# Altium integrated library TI Data Converters Digital to Analog Converter.IntLib: 1533 symbols (part 12 of 99)
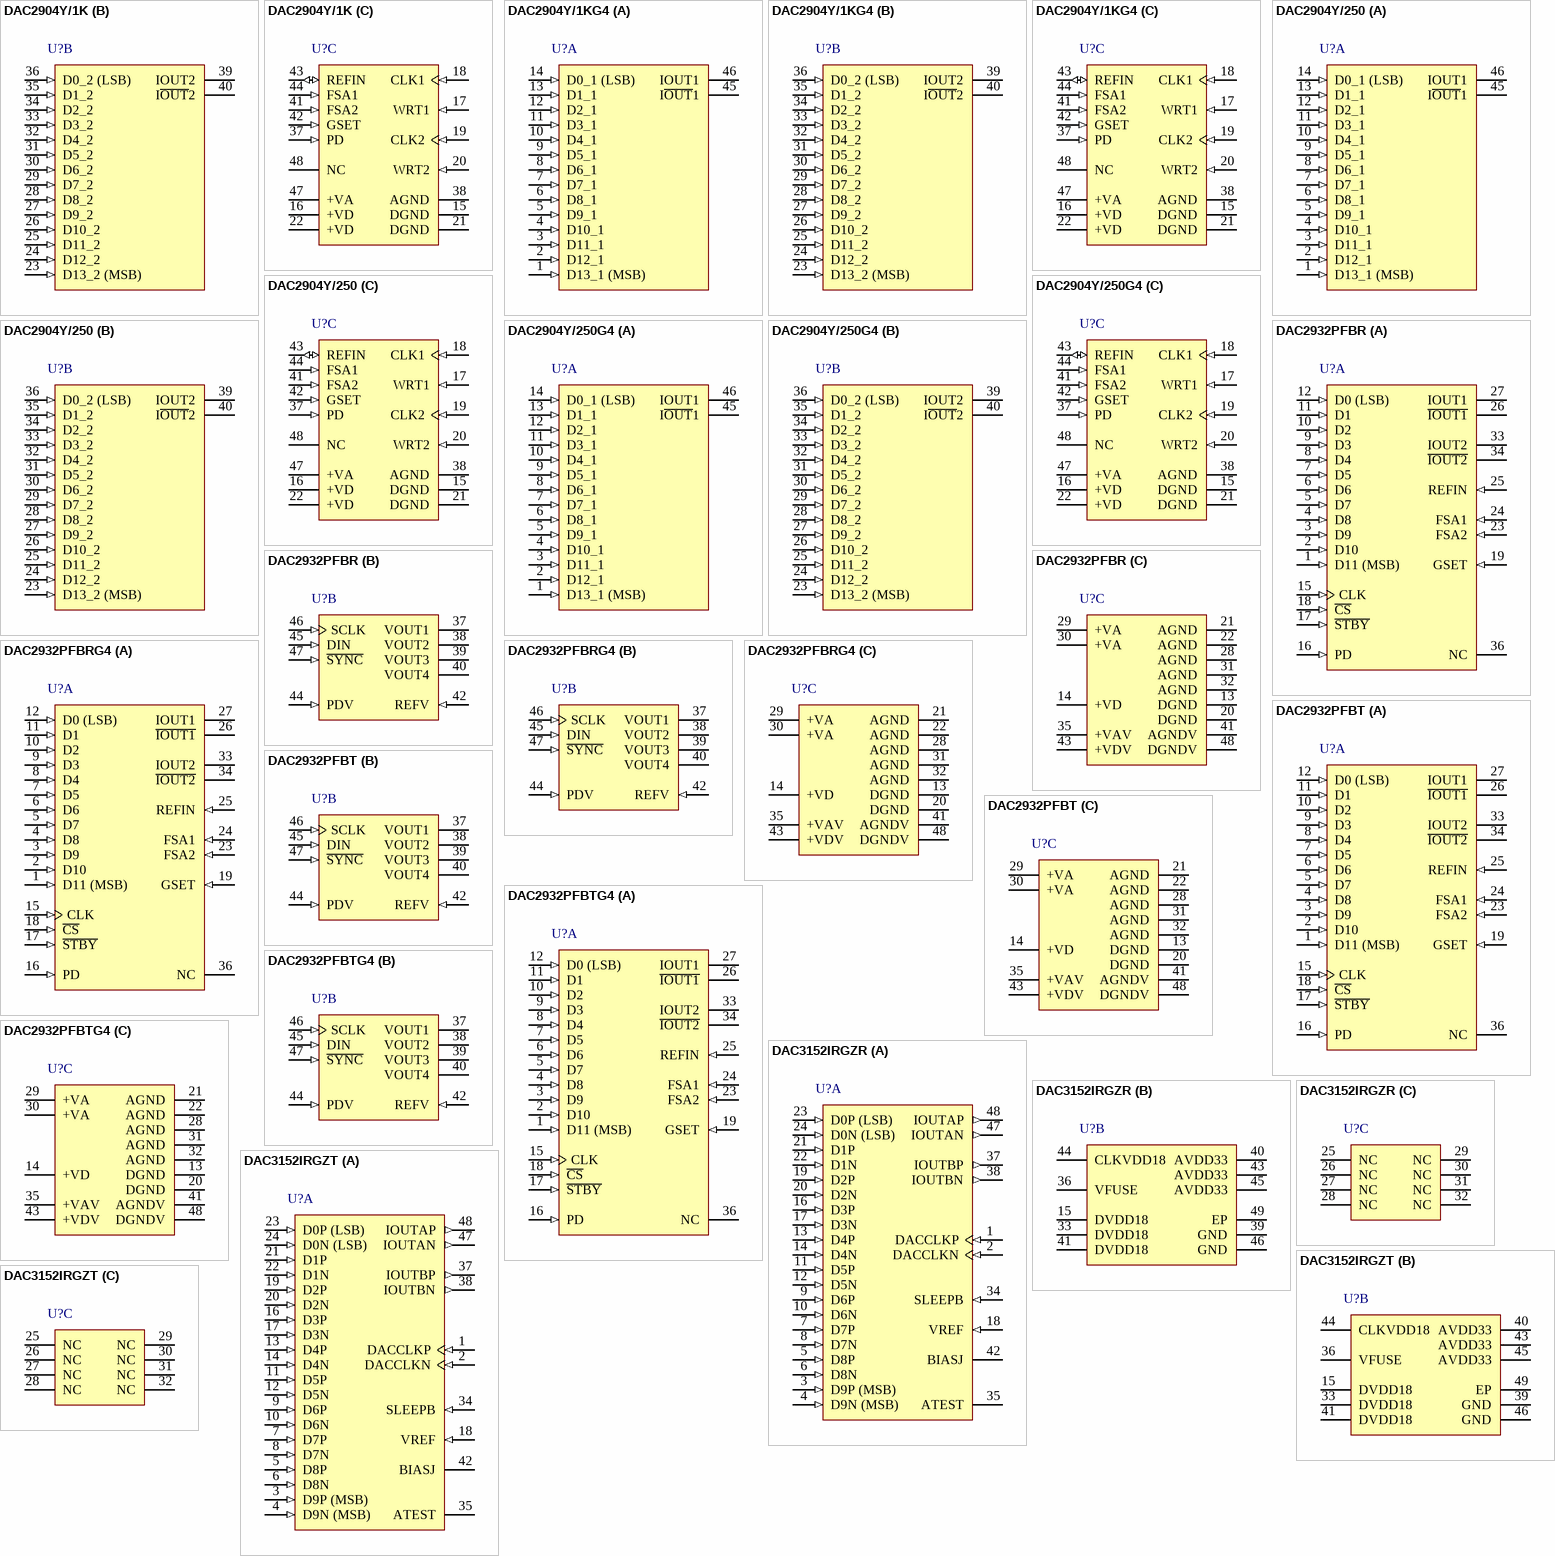
[diagram p84: symbols DAC2904Y/1K to DAC3152IRGZT]

## DAC2904Y/250G4
designator U?
14-Bit, 125 MSPS Dual Communications DAC, -40 to 85 degC, 48-pin QFP (PFB48), Green (RoHS & no Sb/Br); Manufacturer: Texas Instruments; PartNumber: DAC2904Y/250G4; DAC Channels: 2; Interface: Parallel CMOS; Power Consumption(Typ)(mW): 310; Resolution(Bits): 14; Settling Time(us): 0.03; SFDR(dB): 82; SNR(dB): 68; SubFamily: High Speed DAC (>10MSPS); DatasheetVersion: SBAS198C; PackageVersion: 4073176/B, 10/1996; PackageReference: PFB48; PackageDescription: 48-Pin Plastic Flat Pack, Body 7 x 7 mm, Pitch 0.5 mm; Supplier 1: Digi-Key; Supplier Part Number 1: DAC2904Y/250G4-ND; Supplier 2: Mouser; Supplier Part Number 2: 595-DAC2904Y/250G4; Eco-Plan: Green (RoHS & no Sb/Br); Mounting Technology: Surface Mount; Code_JEDEC: MS-026; ComponentLink1Description: Manufacturer URL; ComponentLink1URL: http://www.ti.com/; ComponentLink2Description: Datasheet; ComponentLink2URL: http://www.ti.com/general/docs/lit/getliterature.tsp?genericPartNumber=DAC2904&fileType=pdf; ComponentLink3Description: Package Specification; ComponentLink3URL: http://www.ti.com/lit/ml/mtqf019a/mtqf019a.pdf
footprint TI-PFB48_N (QFP, 48-Leads, Body 7x7mm, Pitch 0.5mm, IPC Medium Density)
footprint TI-PFB48_L (QFP, 48-Leads, Body 7x7mm, Pitch 0.5mm, IPC High Density)
footprint TI-PFB48_M (QFP, 48-Leads, Body 7x7mm, Pitch 0.5mm, IPC Low Density)
part A pins: 1 D13_1 (MSB) (in) "Data Port DAC1, data bit 13 (MSB).", 2 D12_1 (in) "Data Port DAC1, data bit 12.", 3 D11_1 (in) "Data Port DAC1, data bit 11.", 4 D10_1 (in) "Data Port DAC1, data bit 10.", 5 D9_1 (in) "Data Port DAC1, data bit 9.", 6 D8_1 (in) "Data Port DAC1, data bit 8.", 7 D7_1 (in) "Data Port DAC1, data bit 7.", 8 D6_1 (in) "Data Port DAC1, data bit6.", 9 D5_1 (in) "Data Port DAC1, data bit 5.", 10 D4_1 (in) "Data Port DAC1, data bit 4.", 11 D3_1 (in) "Data Port DAC1, data bit 3.", 12 D2_1 (in) "Data Port DAC1, data bit 2.", 13 D1_1 (in) "Data Port DAC1, data bit 1.", 14 D0_1 (LSB) (in) "Data Port DAC1, data bit 0 (LSB).", 45 I~{OUT}1 (hiz) "Complementary current output DAC1. Full-scale with all bits of data port 1 low.", 46 IOUT1 (hiz) "Current output DAC1. Full-scale with all bits of data port 1 high."
part B pins: 23 D13_2 (MSB) (in) "Data Port DAC2, data bit 13 (MSB).", 24 D12_2 (in) "Data Port DAC2, data bit 12.", 25 D11_2 (in) "Data Port DAC2, data bit 11.", 26 D10_2 (in) "Data Port DAC2, data bit 10.", 27 D9_2 (in) "Data Port DAC2, data bit 9.", 28 D8_2 (in) "Data Port DAC2, data bit 8.", 29 D7_2 (in) "Data Port DAC2, data bit 7.", 30 D6_2 (in) "Data Port DAC2, data bit6.", 31 D5_2 (in) "Data Port DAC2, data bit 5.", 32 D4_2 (in) "Data Port DAC2, data bit 4.", 33 D3_2 (in) "Data Port DAC2, data bit 3.", 34 D2_2 (in) "Data Port DAC2, data bit 2.", 35 D1_2 (in) "Data Port DAC2, data bit 1.", 36 D0_2 (LSB) (in) "Data Port DAC2, data bit 0 (LSB).", 39 IOUT2 (hiz) "Current output DAC2. Full-scale with all bits of data port 2 high.", 40 I~{OUT}2 (hiz) "Complementary current output DAC2. Full-scale with all bits of data port 2 low."
part C pins: 15 DGND (power) "Digital ground", 16 +VD (power) "Digital supply, +3.0V to +5.5V", 17 WRT1 (in) "DAC1 Input latches write signal", 18 CLK1 (in) "Clock input DAC1", 19 CLK2 (in) "Clock input DAC2", 20 WRT2 (in) "DAC2 Input latches write signal", 21 DGND (power) "Digital ground", 22 +VD (power) "Digital supply, +3.0V to +5.5V", 37 PD (in) "Power-down function control input. H = DAC in power-down mode; L = DAC in normal operation (internal pull-down for default L).", 38 AGND (power) "Analog ground", 41 FSA2 (in) "Full-scale adjust, DAC2. Connect external RSET resistor.", 42 GSET (in) "Gain-setting mode (H = one resistor, L = two resistors)", 43 REFIN (io) "Internal reference voltage output; external reference voltage input. Bypass with 0.1uF capacitor to AGND for internal reference operation.", 44 FSA1 (in) "Full-scale adjust, DAC1. Connect external RSET resistor.", 47 +VA (power) "Analog supply, +3.0V to +5.5V", 48 NC "No connection"

## DAC2932PFBR
designator U?
Ultra-Low Power 29 mW, 12-Bit, Dual 40 MSPS D/A with 4 Additional Ctrl DAC for Transmit / Rec Path Control, -40 to 85 degC, 48-pin QFP (PFB48), Green (RoHS & no Sb/Br); Manufacturer: Texas Instruments; PartNumber: DAC2932PFBR; DAC Channels: 2; DNL(Max)(+/-LSB): 3.5; INL(Max)(+/-LSB): 8; Interface: Parallel CMOS; Power Consumption(Typ)(mW): 29; Resolution(Bits): 12; Settling Time(us): 0.02; SFDR(dB): 75; SubFamily: High Speed DAC (>10MSPS); DatasheetVersion: SBAS279D; PackageVersion: 4073176/B, 10/1996; PackageReference: PFB48; PackageDescription: 48-Pin Plastic Flat Pack, Body 7 x 7 mm, Pitch 0.5 mm; Supplier 1: Digi-Key; Supplier Part Number 1: DAC2932PFBR-ND; Supplier 2: Mouser; Supplier Part Number 2: 595-DAC2932PFBR; Eco-Plan: Green (RoHS & no Sb/Br); Mounting Technology: Surface Mount; Code_JEDEC: MS-026; ComponentLink1Description: Manufacturer URL; ComponentLink1URL: http://www.ti.com/; ComponentLink2Description: Datasheet; ComponentLink2URL: http://www.ti.com/general/docs/lit/getliterature.tsp?genericPartNumber=DAC2932&fileType=pdf; ComponentLink3Description: Package Specification; ComponentLink3URL: http://www.ti.com/lit/ml/mtqf019a/mtqf019a.pdf
footprint TI-PFB48_N (QFP, 48-Leads, Body 7x7mm, Pitch 0.5mm, IPC Medium Density)
footprint TI-PFB48_L (QFP, 48-Leads, Body 7x7mm, Pitch 0.5mm, IPC High Density)
footprint TI-PFB48_M (QFP, 48-Leads, Body 7x7mm, Pitch 0.5mm, IPC Low Density)
part A pins: 1 D11 (MSB) (in) "Parallel data input port for the dual I-DACs; MSB = D11, LSB = D0; interleaved operation.", 2 D10 (in) "Parallel data input port for the dual I-DACs; MSB = D11, LSB = D0; interleaved operation.", 3 D9 (in) "Parallel data input port for the dual I-DACs; MSB = D11, LSB = D0; interleaved operation.", 4 D8 (in) "Parallel data input port for the dual I-DACs; MSB = D11, LSB = D0; interleaved operation.", 5 D7 (in) "Parallel data input port for the dual I-DACs; MSB = D11, LSB = D0; interleaved operation.", 6 D6 (in) "Parallel data input port for the dual I-DACs; MSB = D11, LSB = D0; interleaved operation.", 7 D5 (in) "Parallel data input port for the dual I-DACs; MSB = D11, LSB = D0; interleaved operation.", 8 D4 (in) "Parallel data input port for the dual I-DACs; MSB = D11, LSB = D0; interleaved operation.", 9 D3 (in) "Parallel data input port for the dual I-DACs; MSB = D11, LSB = D0; interleaved operation.", 10 D2 (in) "Parallel data input port for the dual I-DACs; MSB = D11, LSB = D0; interleaved operation.", 11 D1 (in) "Parallel data input port for the dual I-DACs; MSB = D11, LSB = D0; interleaved operation.", 12 D0 (LSB) (in) "Parallel data input port for the dual I-DACs; MSB = D11, LSB = D0; interleaved operation.", 15 CLK (in) "Clock input of I-DAC", 16 PD (in) "Power-down pin; active high; a logic high initiates power-down mode.", 17 ~{STBY} (in) "Standby pin of I-DAC; active low; a logic low initiates Standby mode with PD = Low. A logic high configures the I-DAC for normal operation; pin will resume a high state if left open.", 18 ~{CS} (in) "Chip select; active low; enables the parallel data port of the I-DACs; if used as chip select in applications using multiple DAC2932 devices, the parallel port data must be scrambled for proper functionality. Pin wil(See Datasheet)", 19 GSET (in) "Gain-setting mode. A logic high enables the use of two separate full-scale adjust resistors on pins FSA1 and FSA2. A logic low allows the use of a common full-scale adjust resistor connected to FSA1. The function of the FSA2 (See Datasheet)", 23 FSA2 (in) "Full-scale adjust of I-DAC2; connect external gain setting resistor RSET2 = 19.6kohm.", 24 FSA1 (in) "Full-scale adjust of I-DAC1; connect external gain setting resistor RSET1 = 19.6kohm.", 25 REFIN (in) "External reference voltage input; internal reference voltage output; bypass with 0.1uF to AGND for internal reference operation.", 26 ~{IOUT1} (hiz) "Complementary current ouput of I-DAC1", 27 IOUT1 (hiz) "Current output of I-DAC1", 33 IOUT2 (hiz) "Current output of I-DAC2", 34 ~{IOUT2} (hiz) "Complementary current ouput of I-DAC2", 36 NC "No internal connection"
part B pins: 37 VOUT1 (hiz) "Voltage output of V-DAC1", 38 VOUT2 (hiz) "Voltage output of V-DAC2", 39 VOUT3 (hiz) "Voltage output of V-DAC3", 40 VOUT4 (hiz) "Voltage output of V-DAC4", 42 REFV (in) "Reference voltage input for V-DACs; typically connected to supply (+VAV)", 44 PDV (in) "Power-down of V-DACs; active high; a logic high initiates the power-down mode", 45 DIN (in) "Serial digital input for V-DAC; see timing and application sections for details", 46 SCLK (in) "Clock input of V-DAC", 47 ~{SYNC} (in) "Frame synchronization signal for the serial data at DIN. Refer to timing section for details."
part C pins: 13 DGND (power) "Digital ground of I-DAC", 14 +VD (power) "Digital supply of I-DAC; 2.7V to 3.3V", 20 DGND (power) "Digital ground of I-DAC", 21 AGND (power) "Analog ground of I-DAC", 22 AGND (power) "Analog ground of I-DAC", 28 AGND (power) "Analog ground of I-DAC", 29 +VA (power) "Analog supply of I-DAC; 2.7V to 3.3V", 30 +VA (power) "Analog supply of I-DAC; 2.7V to 3.3V", 31 AGND (power) "Analog ground of I-DAC", 32 AGND (power) "Analog ground of I-DAC", 35 +VAV (power) "Analog supply of V-DAC; 2.7V to 3.3V", 41 AGNDV (power) "Analog ground of V-DAC", 43 +VDV (power) "Digital supply of V-DAC; 2.7V to 3.3V", 48 DGNDV (power) "Digital ground of V-DAC."

## DAC2932PFBRG4
designator U?
Ultra-Low Power 29 mW, 12-Bit, Dual 40 MSPS D/A with 4 Additional Ctrl DAC for Transmit / Rec Path Control, -40 to 85 degC, 48-pin QFP (PFB48), Green (RoHS & no Sb/Br); Manufacturer: Texas Instruments; PartNumber: DAC2932PFBRG4; DAC Channels: 2; DNL(Max)(+/-LSB): 3.5; INL(Max)(+/-LSB): 8; Interface: Parallel CMOS; Power Consumption(Typ)(mW): 29; Resolution(Bits): 12; Settling Time(us): 0.02; SFDR(dB): 75; SubFamily: High Speed DAC (>10MSPS); DatasheetVersion: SBAS279D; PackageVersion: 4073176/B, 10/1996; PackageReference: PFB48; PackageDescription: 48-Pin Plastic Flat Pack, Body 7 x 7 mm, Pitch 0.5 mm; Supplier 1: Digi-Key; Supplier Part Number 1: DAC2932PFBRG4-ND; Supplier 2: Newark; Supplier Part Number 2: 53K9290; Supplier 3: Mouser; Supplier Part Number 3: 595-DAC2932PFBRG4; Eco-Plan: Green (RoHS & no Sb/Br); Mounting Technology: Surface Mount; Code_JEDEC: MS-026; ComponentLink1Description: Manufacturer URL; ComponentLink1URL: http://www.ti.com/; ComponentLink2Description: Datasheet; ComponentLink2URL: http://www.ti.com/general/docs/lit/getliterature.tsp?genericPartNumber=DAC2932&fileType=pdf; ComponentLink3Description: Package Specification; ComponentLink3URL: http://www.ti.com/lit/ml/mtqf019a/mtqf019a.pdf
footprint TI-PFB48_N (QFP, 48-Leads, Body 7x7mm, Pitch 0.5mm, IPC Medium Density)
footprint TI-PFB48_L (QFP, 48-Leads, Body 7x7mm, Pitch 0.5mm, IPC High Density)
footprint TI-PFB48_M (QFP, 48-Leads, Body 7x7mm, Pitch 0.5mm, IPC Low Density)
part A pins: 1 D11 (MSB) (in) "Parallel data input port for the dual I-DACs; MSB = D11, LSB = D0; interleaved operation.", 2 D10 (in) "Parallel data input port for the dual I-DACs; MSB = D11, LSB = D0; interleaved operation.", 3 D9 (in) "Parallel data input port for the dual I-DACs; MSB = D11, LSB = D0; interleaved operation.", 4 D8 (in) "Parallel data input port for the dual I-DACs; MSB = D11, LSB = D0; interleaved operation.", 5 D7 (in) "Parallel data input port for the dual I-DACs; MSB = D11, LSB = D0; interleaved operation.", 6 D6 (in) "Parallel data input port for the dual I-DACs; MSB = D11, LSB = D0; interleaved operation.", 7 D5 (in) "Parallel data input port for the dual I-DACs; MSB = D11, LSB = D0; interleaved operation.", 8 D4 (in) "Parallel data input port for the dual I-DACs; MSB = D11, LSB = D0; interleaved operation.", 9 D3 (in) "Parallel data input port for the dual I-DACs; MSB = D11, LSB = D0; interleaved operation.", 10 D2 (in) "Parallel data input port for the dual I-DACs; MSB = D11, LSB = D0; interleaved operation.", 11 D1 (in) "Parallel data input port for the dual I-DACs; MSB = D11, LSB = D0; interleaved operation.", 12 D0 (LSB) (in) "Parallel data input port for the dual I-DACs; MSB = D11, LSB = D0; interleaved operation.", 15 CLK (in) "Clock input of I-DAC", 16 PD (in) "Power-down pin; active high; a logic high initiates power-down mode.", 17 ~{STBY} (in) "Standby pin of I-DAC; active low; a logic low initiates Standby mode with PD = Low. A logic high configures the I-DAC for normal operation; pin will resume a high state if left open.", 18 ~{CS} (in) "Chip select; active low; enables the parallel data port of the I-DACs; if used as chip select in applications using multiple DAC2932 devices, the parallel port data must be scrambled for proper functionality. Pin wil(See Datasheet)", 19 GSET (in) "Gain-setting mode. A logic high enables the use of two separate full-scale adjust resistors on pins FSA1 and FSA2. A logic low allows the use of a common full-scale adjust resistor connected to FSA1. The function of the FSA2 (See Datasheet)", 23 FSA2 (in) "Full-scale adjust of I-DAC2; connect external gain setting resistor RSET2 = 19.6kohm.", 24 FSA1 (in) "Full-scale adjust of I-DAC1; connect external gain setting resistor RSET1 = 19.6kohm.", 25 REFIN (in) "External reference voltage input; internal reference voltage output; bypass with 0.1uF to AGND for internal reference operation.", 26 ~{IOUT1} (hiz) "Complementary current ouput of I-DAC1", 27 IOUT1 (hiz) "Current output of I-DAC1", 33 IOUT2 (hiz) "Current output of I-DAC2", 34 ~{IOUT2} (hiz) "Complementary current ouput of I-DAC2", 36 NC "No internal connection"
part B pins: 37 VOUT1 (hiz) "Voltage output of V-DAC1", 38 VOUT2 (hiz) "Voltage output of V-DAC2", 39 VOUT3 (hiz) "Voltage output of V-DAC3", 40 VOUT4 (hiz) "Voltage output of V-DAC4", 42 REFV (in) "Reference voltage input for V-DACs; typically connected to supply (+VAV)", 44 PDV (in) "Power-down of V-DACs; active high; a logic high initiates the power-down mode", 45 DIN (in) "Serial digital input for V-DAC; see timing and application sections for details", 46 SCLK (in) "Clock input of V-DAC", 47 ~{SYNC} (in) "Frame synchronization signal for the serial data at DIN. Refer to timing section for details."
part C pins: 13 DGND (power) "Digital ground of I-DAC", 14 +VD (power) "Digital supply of I-DAC; 2.7V to 3.3V", 20 DGND (power) "Digital ground of I-DAC", 21 AGND (power) "Analog ground of I-DAC", 22 AGND (power) "Analog ground of I-DAC", 28 AGND (power) "Analog ground of I-DAC", 29 +VA (power) "Analog supply of I-DAC; 2.7V to 3.3V", 30 +VA (power) "Analog supply of I-DAC; 2.7V to 3.3V", 31 AGND (power) "Analog ground of I-DAC", 32 AGND (power) "Analog ground of I-DAC", 35 +VAV (power) "Analog supply of V-DAC; 2.7V to 3.3V", 41 AGNDV (power) "Analog ground of V-DAC", 43 +VDV (power) "Digital supply of V-DAC; 2.7V to 3.3V", 48 DGNDV (power) "Digital ground of V-DAC."

## DAC2932PFBT
designator U?
Ultra-Low Power 29 mW, 12-Bit, Dual 40 MSPS D/A with 4 Additional Ctrl DAC for Transmit / Rec Path Control, -40 to 85 degC, 48-pin QFP (PFB48), Green (RoHS & no Sb/Br); Manufacturer: Texas Instruments; PartNumber: DAC2932PFBT; DAC Channels: 2; DNL(Max)(+/-LSB): 3.5; INL(Max)(+/-LSB): 8; Interface: Parallel CMOS; Power Consumption(Typ)(mW): 29; Resolution(Bits): 12; Settling Time(us): 0.02; SFDR(dB): 75; SubFamily: High Speed DAC (>10MSPS); DatasheetVersion: SBAS279D; PackageVersion: 4073176/B, 10/1996; PackageReference: PFB48; PackageDescription: 48-Pin Plastic Flat Pack, Body 7 x 7 mm, Pitch 0.5 mm; Supplier 1: Digi-Key; Supplier Part Number 1: 296-15714-2-ND; Supplier 2: Digi-Key; Supplier Part Number 2: 296-15714-1-ND; Supplier 3: Digi-Key; Supplier Part Number 3: 296-15714-6-ND; Supplier 4: Newark; Supplier Part Number 4: 82H3241; Supplier 5: Mouser; Supplier Part Number 5: 595-DAC2932PFBT; Eco-Plan: Green (RoHS & no Sb/Br); Mounting Technology: Surface Mount; Code_JEDEC: MS-026; ComponentLink1Description: Manufacturer URL; ComponentLink1URL: http://www.ti.com/; ComponentLink2Description: Datasheet; ComponentLink2URL: http://www.ti.com/general/docs/lit/getliterature.tsp?genericPartNumber=DAC2932&fileType=pdf; ComponentLink3Description: Package Specification; ComponentLink3URL: http://www.ti.com/lit/ml/mtqf019a/mtqf019a.pdf
footprint TI-PFB48_N (QFP, 48-Leads, Body 7x7mm, Pitch 0.5mm, IPC Medium Density)
footprint TI-PFB48_L (QFP, 48-Leads, Body 7x7mm, Pitch 0.5mm, IPC High Density)
footprint TI-PFB48_M (QFP, 48-Leads, Body 7x7mm, Pitch 0.5mm, IPC Low Density)
part A pins: 1 D11 (MSB) (in) "Parallel data input port for the dual I-DACs; MSB = D11, LSB = D0; interleaved operation.", 2 D10 (in) "Parallel data input port for the dual I-DACs; MSB = D11, LSB = D0; interleaved operation.", 3 D9 (in) "Parallel data input port for the dual I-DACs; MSB = D11, LSB = D0; interleaved operation.", 4 D8 (in) "Parallel data input port for the dual I-DACs; MSB = D11, LSB = D0; interleaved operation.", 5 D7 (in) "Parallel data input port for the dual I-DACs; MSB = D11, LSB = D0; interleaved operation.", 6 D6 (in) "Parallel data input port for the dual I-DACs; MSB = D11, LSB = D0; interleaved operation.", 7 D5 (in) "Parallel data input port for the dual I-DACs; MSB = D11, LSB = D0; interleaved operation.", 8 D4 (in) "Parallel data input port for the dual I-DACs; MSB = D11, LSB = D0; interleaved operation.", 9 D3 (in) "Parallel data input port for the dual I-DACs; MSB = D11, LSB = D0; interleaved operation.", 10 D2 (in) "Parallel data input port for the dual I-DACs; MSB = D11, LSB = D0; interleaved operation.", 11 D1 (in) "Parallel data input port for the dual I-DACs; MSB = D11, LSB = D0; interleaved operation.", 12 D0 (LSB) (in) "Parallel data input port for the dual I-DACs; MSB = D11, LSB = D0; interleaved operation.", 15 CLK (in) "Clock input of I-DAC", 16 PD (in) "Power-down pin; active high; a logic high initiates power-down mode.", 17 ~{STBY} (in) "Standby pin of I-DAC; active low; a logic low initiates Standby mode with PD = Low. A logic high configures the I-DAC for normal operation; pin will resume a high state if left open.", 18 ~{CS} (in) "Chip select; active low; enables the parallel data port of the I-DACs; if used as chip select in applications using multiple DAC2932 devices, the parallel port data must be scrambled for proper functionality. Pin wil(See Datasheet)", 19 GSET (in) "Gain-setting mode. A logic high enables the use of two separate full-scale adjust resistors on pins FSA1 and FSA2. A logic low allows the use of a common full-scale adjust resistor connected to FSA1. The function of the FSA2 (See Datasheet)", 23 FSA2 (in) "Full-scale adjust of I-DAC2; connect external gain setting resistor RSET2 = 19.6kohm.", 24 FSA1 (in) "Full-scale adjust of I-DAC1; connect external gain setting resistor RSET1 = 19.6kohm.", 25 REFIN (in) "External reference voltage input; internal reference voltage output; bypass with 0.1uF to AGND for internal reference operation.", 26 ~{IOUT1} (hiz) "Complementary current ouput of I-DAC1", 27 IOUT1 (hiz) "Current output of I-DAC1", 33 IOUT2 (hiz) "Current output of I-DAC2", 34 ~{IOUT2} (hiz) "Complementary current ouput of I-DAC2", 36 NC "No internal connection"
part B pins: 37 VOUT1 (hiz) "Voltage output of V-DAC1", 38 VOUT2 (hiz) "Voltage output of V-DAC2", 39 VOUT3 (hiz) "Voltage output of V-DAC3", 40 VOUT4 (hiz) "Voltage output of V-DAC4", 42 REFV (in) "Reference voltage input for V-DACs; typically connected to supply (+VAV)", 44 PDV (in) "Power-down of V-DACs; active high; a logic high initiates the power-down mode", 45 DIN (in) "Serial digital input for V-DAC; see timing and application sections for details", 46 SCLK (in) "Clock input of V-DAC", 47 ~{SYNC} (in) "Frame synchronization signal for the serial data at DIN. Refer to timing section for details."
part C pins: 13 DGND (power) "Digital ground of I-DAC", 14 +VD (power) "Digital supply of I-DAC; 2.7V to 3.3V", 20 DGND (power) "Digital ground of I-DAC", 21 AGND (power) "Analog ground of I-DAC", 22 AGND (power) "Analog ground of I-DAC", 28 AGND (power) "Analog ground of I-DAC", 29 +VA (power) "Analog supply of I-DAC; 2.7V to 3.3V", 30 +VA (power) "Analog supply of I-DAC; 2.7V to 3.3V", 31 AGND (power) "Analog ground of I-DAC", 32 AGND (power) "Analog ground of I-DAC", 35 +VAV (power) "Analog supply of V-DAC; 2.7V to 3.3V", 41 AGNDV (power) "Analog ground of V-DAC", 43 +VDV (power) "Digital supply of V-DAC; 2.7V to 3.3V", 48 DGNDV (power) "Digital ground of V-DAC."

## DAC2932PFBTG4
designator U?
Ultra-Low Power 29 mW, 12-Bit, Dual 40 MSPS D/A with 4 Additional Ctrl DAC for Transmit / Rec Path Control, -40 to 85 degC, 48-pin QFP (PFB48), Green (RoHS & no Sb/Br); Manufacturer: Texas Instruments; PartNumber: DAC2932PFBTG4; DAC Channels: 2; DNL(Max)(+/-LSB): 3.5; INL(Max)(+/-LSB): 8; Interface: Parallel CMOS; Power Consumption(Typ)(mW): 29; Resolution(Bits): 12; Settling Time(us): 0.02; SFDR(dB): 75; SubFamily: High Speed DAC (>10MSPS); DatasheetVersion: SBAS279D; PackageVersion: 4073176/B, 10/1996; PackageReference: PFB48; PackageDescription: 48-Pin Plastic Flat Pack, Body 7 x 7 mm, Pitch 0.5 mm; Supplier 1: Digi-Key; Supplier Part Number 1: DAC2932PFBTG4-ND; Supplier 2: Mouser; Supplier Part Number 2: 595-DAC2932PFBTG4; Eco-Plan: Green (RoHS & no Sb/Br); Mounting Technology: Surface Mount; Code_JEDEC: MS-026; ComponentLink1Description: Manufacturer URL; ComponentLink1URL: http://www.ti.com/; ComponentLink2Description: Datasheet; ComponentLink2URL: http://www.ti.com/general/docs/lit/getliterature.tsp?genericPartNumber=DAC2932&fileType=pdf; ComponentLink3Description: Package Specification; ComponentLink3URL: http://www.ti.com/lit/ml/mtqf019a/mtqf019a.pdf
footprint TI-PFB48_N (QFP, 48-Leads, Body 7x7mm, Pitch 0.5mm, IPC Medium Density)
footprint TI-PFB48_L (QFP, 48-Leads, Body 7x7mm, Pitch 0.5mm, IPC High Density)
footprint TI-PFB48_M (QFP, 48-Leads, Body 7x7mm, Pitch 0.5mm, IPC Low Density)
part A pins: 1 D11 (MSB) (in) "Parallel data input port for the dual I-DACs; MSB = D11, LSB = D0; interleaved operation.", 2 D10 (in) "Parallel data input port for the dual I-DACs; MSB = D11, LSB = D0; interleaved operation.", 3 D9 (in) "Parallel data input port for the dual I-DACs; MSB = D11, LSB = D0; interleaved operation.", 4 D8 (in) "Parallel data input port for the dual I-DACs; MSB = D11, LSB = D0; interleaved operation.", 5 D7 (in) "Parallel data input port for the dual I-DACs; MSB = D11, LSB = D0; interleaved operation.", 6 D6 (in) "Parallel data input port for the dual I-DACs; MSB = D11, LSB = D0; interleaved operation.", 7 D5 (in) "Parallel data input port for the dual I-DACs; MSB = D11, LSB = D0; interleaved operation.", 8 D4 (in) "Parallel data input port for the dual I-DACs; MSB = D11, LSB = D0; interleaved operation.", 9 D3 (in) "Parallel data input port for the dual I-DACs; MSB = D11, LSB = D0; interleaved operation.", 10 D2 (in) "Parallel data input port for the dual I-DACs; MSB = D11, LSB = D0; interleaved operation.", 11 D1 (in) "Parallel data input port for the dual I-DACs; MSB = D11, LSB = D0; interleaved operation.", 12 D0 (LSB) (in) "Parallel data input port for the dual I-DACs; MSB = D11, LSB = D0; interleaved operation.", 15 CLK (in) "Clock input of I-DAC", 16 PD (in) "Power-down pin; active high; a logic high initiates power-down mode.", 17 ~{STBY} (in) "Standby pin of I-DAC; active low; a logic low initiates Standby mode with PD = Low. A logic high configures the I-DAC for normal operation; pin will resume a high state if left open.", 18 ~{CS} (in) "Chip select; active low; enables the parallel data port of the I-DACs; if used as chip select in applications using multiple DAC2932 devices, the parallel port data must be scrambled for proper functionality. Pin wil(See Datasheet)", 19 GSET (in) "Gain-setting mode. A logic high enables the use of two separate full-scale adjust resistors on pins FSA1 and FSA2. A logic low allows the use of a common full-scale adjust resistor connected to FSA1. The function of the FSA2 (See Datasheet)", 23 FSA2 (in) "Full-scale adjust of I-DAC2; connect external gain setting resistor RSET2 = 19.6kohm.", 24 FSA1 (in) "Full-scale adjust of I-DAC1; connect external gain setting resistor RSET1 = 19.6kohm.", 25 REFIN (in) "External reference voltage input; internal reference voltage output; bypass with 0.1uF to AGND for internal reference operation.", 26 ~{IOUT1} (hiz) "Complementary current ouput of I-DAC1", 27 IOUT1 (hiz) "Current output of I-DAC1", 33 IOUT2 (hiz) "Current output of I-DAC2", 34 ~{IOUT2} (hiz) "Complementary current ouput of I-DAC2", 36 NC "No internal connection"
part B pins: 37 VOUT1 (hiz) "Voltage output of V-DAC1", 38 VOUT2 (hiz) "Voltage output of V-DAC2", 39 VOUT3 (hiz) "Voltage output of V-DAC3", 40 VOUT4 (hiz) "Voltage output of V-DAC4", 42 REFV (in) "Reference voltage input for V-DACs; typically connected to supply (+VAV)", 44 PDV (in) "Power-down of V-DACs; active high; a logic high initiates the power-down mode", 45 DIN (in) "Serial digital input for V-DAC; see timing and application sections for details", 46 SCLK (in) "Clock input of V-DAC", 47 ~{SYNC} (in) "Frame synchronization signal for the serial data at DIN. Refer to timing section for details."
part C pins: 13 DGND (power) "Digital ground of I-DAC", 14 +VD (power) "Digital supply of I-DAC; 2.7V to 3.3V", 20 DGND (power) "Digital ground of I-DAC", 21 AGND (power) "Analog ground of I-DAC", 22 AGND (power) "Analog ground of I-DAC", 28 AGND (power) "Analog ground of I-DAC", 29 +VA (power) "Analog supply of I-DAC; 2.7V to 3.3V", 30 +VA (power) "Analog supply of I-DAC; 2.7V to 3.3V", 31 AGND (power) "Analog ground of I-DAC", 32 AGND (power) "Analog ground of I-DAC", 35 +VAV (power) "Analog supply of V-DAC; 2.7V to 3.3V", 41 AGNDV (power) "Analog ground of V-DAC", 43 +VDV (power) "Digital supply of V-DAC; 2.7V to 3.3V", 48 DGNDV (power) "Digital ground of V-DAC."

## DAC3152IRGZR
designator U?
Dual-Channel, 10-Bit, 500 MSPS DAC, -40 to 85 DegC, 48-Pin QFN (RGZ48), Green (RoHS & no Sb/Br); Manufacturer: Texas Instruments; PartNumber: DAC3152IRGZR; DAC Channels: 2; Interface: Parallel LVDS; Power Consumption(Typ)(mW): 270; Resolution(Bits): 10; SFDR(dB): 78; SubFamily: High Speed DAC (>10MSPS); DatasheetVersion: SLAS736D; PackageVersion: 4204101/F, 06/2011; PackageReference: RGZ48-5600X5600TP; PackageDescription: 48-Lead, Plastic Flat Pack, Body Size 7 x 7 mm, Pitch 0.5 mm; Supplier 1: Digi-Key; Supplier Part Number 1: DAC3152IRGZR-ND; Supplier 2: Mouser; Supplier Part Number 2: 595-DAC3152IRGZR; Eco-Plan: Green (RoHS & no Sb/Br); Mounting Technology: Surface Mount; Code_JEDEC: MO-220; ComponentLink1Description: Manufacturer URL; ComponentLink1URL: http://www.ti.com/; ComponentLink2Description: Datasheet; ComponentLink2URL: http://www.ti.com/general/docs/lit/getliterature.tsp?genericPartNumber=DAC3152&fileType=pdf; ComponentLink3Description: Package Specification; ComponentLink3URL: http://www.ti.com/lit/ml/mpqf123e/mpqf123e.pdf
footprint TI-RGZ48-5600X5600TP_V (QFN, 48-Leads, Body 7x7mm, Pitch 0.5mm, Thermal Pad 5.6x5.6mm)
part A pins: 1 DACCLKP (in) "Positive external LVPECL clock input with a self-bias of approximately CLKVDD18/2. Input data is latched on both edges of DACCLKP/N (double data rate). The LVPECL clock signal should be AC coupled.", 2 DACCLKN (in) "Complementary external LVPECL clock input (see the DACCLKP description). The LVPECL clock signal should be AC coupled.", 3 D9P (MSB) (in) "LVDS positive-input data bits 0 through 9. Each positive/negative LVDS pair has an internal 100-ohm termination resistor. Data format relative to DACCLKP/N clock is double data rate (DDR) with two data transfers per (See Datasheet)", 4 D9N (MSB) (in) "LVDS negative-input data bits 0 through 9. (See D[9:0]P description) D9N is most-significant data bit (MSB) - pin 4 D0N is least-significant data bit (LSB) - pin 24", 5 D8P (in) "LVDS positive-input data bits 0 through 9. Each positive/negative LVDS pair has an internal 100-ohm termination resistor. Data format relative to DACCLKP/N clock is double data rate (DDR) with two data transfers per (See Datasheet)", 6 D8N (in) "LVDS negative-input data bits 0 through 9. (See D[9:0]P description) D9N is most-significant data bit (MSB) - pin 4 D0N is least-significant data bit (LSB) - pin 24", 7 D7P (in) "LVDS positive-input data bits 0 through 9. Each positive/negative LVDS pair has an internal 100-ohm termination resistor. Data format relative to DACCLKP/N clock is double data rate (DDR) with two data transfers per (See Datasheet)", 8 D7N (in) "LVDS negative-input data bits 0 through 9. (See D[9:0]P description) D9N is most-significant data bit (MSB) - pin 4 D0N is least-significant data bit (LSB) - pin 24", 9 D6P (in) "LVDS positive-input data bits 0 through 9. Each positive/negative LVDS pair has an internal 100-ohm termination resistor. Data format relative to DACCLKP/N clock is double data rate (DDR) with two data transfers per (See Datasheet)", 10 D6N (in) "LVDS negative-input data bits 0 through 9. (See D[9:0]P description) D9N is most-significant data bit (MSB) - pin 4 D0N is least-significant data bit (LSB) - pin 24", 11 D5P (in) "LVDS positive-input data bits 0 through 9. Each positive/negative LVDS pair has an internal 100-ohm termination resistor. Data format relative to DACCLKP/N clock is double data rate (DDR) with two data transfers per (See Datasheet)", 12 D5N (in) "LVDS negative-input data bits 0 through 9. (See D[9:0]P description) D9N is most-significant data bit (MSB) - pin 4 D0N is least-significant data bit (LSB) - pin 24", 13 D4P (in) "LVDS positive-input data bits 0 through 9. Each positive/negative LVDS pair has an internal 100-ohm termination resistor. Data format relative to DACCLKP/N clock is double data rate (DDR) with two data transfers per (See Datasheet)", 14 D4N (in) "LVDS negative-input data bits 0 through 9. (See D[9:0]P description) D9N is most-significant data bit (MSB) - pin 4 D0N is least-significant data bit (LSB) - pin 24", 16 D3P (in) "LVDS positive-input data bits 0 through 9. Each positive/negative LVDS pair has an internal 100-ohm termination resistor. Data format relative to DACCLKP/N clock is double data rate (DDR) with two data transfers per (See Datasheet)", 17 D3N (in) "LVDS negative-input data bits 0 through 9. (See D[9:0]P description) D9N is most-significant data bit (MSB) - pin 4 D0N is least-significant data bit (LSB) - pin 24", 18 VREF (in) "Factory use only. Connect to a 0.1-uF decoupling capacitor to GND.", 19 D2P (in) "LVDS positive-input data bits 0 through 9. Each positive/negative LVDS pair has an internal 100-ohm termination resistor. Data format relative to DACCLKP/N clock is double data rate (DDR) with two data transfers per (See Datasheet)", 20 D2N (in) "LVDS negative-input data bits 0 through 9. (See D[9:0]P description) D9N is most-significant data bit (MSB) - pin 4 D0N is least-significant data bit (LSB) - pin 24", 21 D1P (in) "LVDS positive-input data bits 0 through 9. Each positive/negative LVDS pair has an internal 100-ohm termination resistor. Data format relative to DACCLKP/N clock is double data rate (DDR) with two data transfers per (See Datasheet)", 22 D1N (in) "LVDS negative-input data bits 0 through 9. (See D[9:0]P description) D9N is most-significant data bit (MSB) - pin 4 D0N is least-significant data bit (LSB) - pin 24", 23 D0P (LSB) (in) "LVDS positive-input data bits 0 through 9. Each positive/negative LVDS pair has an internal 100-ohm termination resistor. Data format relative to DACCLKP/N clock is double data rate (DDR) with two data transfers per (See Datasheet)", 24 D0N (LSB) (in) "LVDS negative-input data bits 0 through 9. (See D[9:0]P description) D9N is most-significant data bit (MSB) - pin 4 D0N is least-significant data bit (LSB) - pin 24", 34 SLEEPB (in) "Connect to GND to put the device in sleep mode or to AVDD for active mode. Internal pullup", 35 ATEST "Factory use only. Leave unconnected for normal operation.", 37 IOUTBP (out) "B-channel DAC current output. See the IOUTAP description.", 38 IOUTBN (out) "B-channel DAC complementary current output. See the IOUTAN description.", 42 BIASJ "Full-scale output current bias. For 20-mA full-scale output current, connect a 960-ohm resistor to GND.", 47 IOUTAN (out) "A-channel DAC complementary current output. IOUTAN has the opposite behavior of the IOUTAP described for IOUTAP. An input data value of 0x0000 results in a 0-mA sink and the most-positive voltage on the IOUTAN pin.", 48 IOUTAP (out) "A-channel DAC current output. An offset binary data pattern of 0x0000 at the DAC input results in a full-scale current sink and the least-positive voltage on the IOUTAP pin. Similarly, a 0x3FF data input results in a 0-mA (See Datasheet)"
part B pins: 15 DVDD18 (power) "Digital supply voltage (1.8 V). This supply can be shared with CLKVDD18.", 33 DVDD18 (power) "Digital supply voltage (1.8 V). This supply can be shared with CLKVDD18.", 36 VFUSE (power) "Digital supply voltage (1.8 V). This supply pin is also used for factory fuse programming. Connect to DVDD18 pins for normal operation.", 39 GND (power) "Pins 39 and 46 and the thermal pad located on the bottom of the QFN package are ground for all supplies.", 40 AVDD33 (power) "Analog supply voltage (3.3 V)", 41 DVDD18 (power) "Digital supply voltage (1.8 V). This supply can be shared with CLKVDD18.", 43 AVDD33 (power) "Analog supply voltage (3.3 V)", 44 CLKVDD18 (power) "Internal clock buffer supply voltage (1.8 V) This supply can be shared with DIGVDD18.", 45 AVDD33 (power) "Analog supply voltage (3.3 V)", 46 GND (power) "Pins 39 and 46 and the thermal pad located on the bottom of the QFN package are ground for all supplies.", 49 EP (power) "Pins 39 and 46 and the thermal pad located on the bottom of the QFN package are ground for all supplies."
part C pins: 25 NC "No connect. Leave unconnected for normal operation.", 26 NC "No connect. Leave unconnected for normal operation.", 27 NC "No connect. Leave unconnected for normal operation.", 28 NC "No connect. Leave unconnected for normal operation.", 29 NC "No connect. Leave unconnected for normal operation.", 30 NC "No connect. Leave unconnected for normal operation.", 31 NC "No connect. Leave unconnected for normal operation.", 32 NC "No connect. Leave unconnected for normal operation."

## DAC3152IRGZT
designator U?
Dual-Channel, 10-Bit, 500 MSPS DAC, -40 to 85 DegC, 48-Pin QFN (RGZ48), Green (RoHS & no Sb/Br); Manufacturer: Texas Instruments; PartNumber: DAC3152IRGZT; DAC Channels: 2; Interface: Parallel LVDS; Power Consumption(Typ)(mW): 270; Resolution(Bits): 10; SFDR(dB): 78; SubFamily: High Speed DAC (>10MSPS); DatasheetVersion: SLAS736D; PackageVersion: 4204101/F, 06/2011; PackageReference: RGZ48-5600X5600TP; PackageDescription: 48-Lead, Plastic Flat Pack, Body Size 7 x 7 mm, Pitch 0.5 mm; Supplier 1: Digi-Key; Supplier Part Number 1: 296-30190-2-ND; Supplier 2: Digi-Key; Supplier Part Number 2: 296-30190-1-ND; Supplier 3: Digi-Key; Supplier Part Number 3: 296-30190-6-ND; Supplier 4: Farnell; Supplier Part Number 4: 2082436; Supplier 5: Newark; Supplier Part Number 5: 83T1598; Supplier 6: Newark; Supplier Part Number 6: 76T6000; Supplier 7: Mouser; Supplier Part Number 7: 595-DAC3152IRGZT; Eco-Plan: Green (RoHS & no Sb/Br); Mounting Technology: Surface Mount; Code_JEDEC: MO-220; ComponentLink1Description: Manufacturer URL; ComponentLink1URL: http://www.ti.com/; ComponentLink2Description: Datasheet; ComponentLink2URL: http://www.ti.com/general/docs/lit/getliterature.tsp?genericPartNumber=DAC3152&fileType=pdf; ComponentLink3Description: Package Specification; ComponentLink3URL: http://www.ti.com/lit/ml/mpqf123e/mpqf123e.pdf
footprint TI-RGZ48-5600X5600TP_V (QFN, 48-Leads, Body 7x7mm, Pitch 0.5mm, Thermal Pad 5.6x5.6mm)
part A pins: 1 DACCLKP (in) "Positive external LVPECL clock input with a self-bias of approximately CLKVDD18/2. Input data is latched on both edges of DACCLKP/N (double data rate). The LVPECL clock signal should be AC coupled.", 2 DACCLKN (in) "Complementary external LVPECL clock input (see the DACCLKP description). The LVPECL clock signal should be AC coupled.", 3 D9P (MSB) (in) "LVDS positive-input data bits 0 through 9. Each positive/negative LVDS pair has an internal 100-ohm termination resistor. Data format relative to DACCLKP/N clock is double data rate (DDR) with two data transfers per (See Datasheet)", 4 D9N (MSB) (in) "LVDS negative-input data bits 0 through 9. (See D[9:0]P description) D9N is most-significant data bit (MSB) - pin 4 D0N is least-significant data bit (LSB) - pin 24", 5 D8P (in) "LVDS positive-input data bits 0 through 9. Each positive/negative LVDS pair has an internal 100-ohm termination resistor. Data format relative to DACCLKP/N clock is double data rate (DDR) with two data transfers per (See Datasheet)", 6 D8N (in) "LVDS negative-input data bits 0 through 9. (See D[9:0]P description) D9N is most-significant data bit (MSB) - pin 4 D0N is least-significant data bit (LSB) - pin 24", 7 D7P (in) "LVDS positive-input data bits 0 through 9. Each positive/negative LVDS pair has an internal 100-ohm termination resistor. Data format relative to DACCLKP/N clock is double data rate (DDR) with two data transfers per (See Datasheet)", 8 D7N (in) "LVDS negative-input data bits 0 through 9. (See D[9:0]P description) D9N is most-significant data bit (MSB) - pin 4 D0N is least-significant data bit (LSB) - pin 24", 9 D6P (in) "LVDS positive-input data bits 0 through 9. Each positive/negative LVDS pair has an internal 100-ohm termination resistor. Data format relative to DACCLKP/N clock is double data rate (DDR) with two data transfers per (See Datasheet)", 10 D6N (in) "LVDS negative-input data bits 0 through 9. (See D[9:0]P description) D9N is most-significant data bit (MSB) - pin 4 D0N is least-significant data bit (LSB) - pin 24", 11 D5P (in) "LVDS positive-input data bits 0 through 9. Each positive/negative LVDS pair has an internal 100-ohm termination resistor. Data format relative to DACCLKP/N clock is double data rate (DDR) with two data transfers per (See Datasheet)", 12 D5N (in) "LVDS negative-input data bits 0 through 9. (See D[9:0]P description) D9N is most-significant data bit (MSB) - pin 4 D0N is least-significant data bit (LSB) - pin 24", 13 D4P (in) "LVDS positive-input data bits 0 through 9. Each positive/negative LVDS pair has an internal 100-ohm termination resistor. Data format relative to DACCLKP/N clock is double data rate (DDR) with two data transfers per (See Datasheet)", 14 D4N (in) "LVDS negative-input data bits 0 through 9. (See D[9:0]P description) D9N is most-significant data bit (MSB) - pin 4 D0N is least-significant data bit (LSB) - pin 24", 16 D3P (in) "LVDS positive-input data bits 0 through 9. Each positive/negative LVDS pair has an internal 100-ohm termination resistor. Data format relative to DACCLKP/N clock is double data rate (DDR) with two data transfers per (See Datasheet)", 17 D3N (in) "LVDS negative-input data bits 0 through 9. (See D[9:0]P description) D9N is most-significant data bit (MSB) - pin 4 D0N is least-significant data bit (LSB) - pin 24", 18 VREF (in) "Factory use only. Connect to a 0.1-uF decoupling capacitor to GND.", 19 D2P (in) "LVDS positive-input data bits 0 through 9. Each positive/negative LVDS pair has an internal 100-ohm termination resistor. Data format relative to DACCLKP/N clock is double data rate (DDR) with two data transfers per (See Datasheet)", 20 D2N (in) "LVDS negative-input data bits 0 through 9. (See D[9:0]P description) D9N is most-significant data bit (MSB) - pin 4 D0N is least-significant data bit (LSB) - pin 24", 21 D1P (in) "LVDS positive-input data bits 0 through 9. Each positive/negative LVDS pair has an internal 100-ohm termination resistor. Data format relative to DACCLKP/N clock is double data rate (DDR) with two data transfers per (See Datasheet)", 22 D1N (in) "LVDS negative-input data bits 0 through 9. (See D[9:0]P description) D9N is most-significant data bit (MSB) - pin 4 D0N is least-significant data bit (LSB) - pin 24", 23 D0P (LSB) (in) "LVDS positive-input data bits 0 through 9. Each positive/negative LVDS pair has an internal 100-ohm termination resistor. Data format relative to DACCLKP/N clock is double data rate (DDR) with two data transfers per (See Datasheet)", 24 D0N (LSB) (in) "LVDS negative-input data bits 0 through 9. (See D[9:0]P description) D9N is most-significant data bit (MSB) - pin 4 D0N is least-significant data bit (LSB) - pin 24", 34 SLEEPB (in) "Connect to GND to put the device in sleep mode or to AVDD for active mode. Internal pullup", 35 ATEST "Factory use only. Leave unconnected for normal operation.", 37 IOUTBP (out) "B-channel DAC current output. See the IOUTAP description.", 38 IOUTBN (out) "B-channel DAC complementary current output. See the IOUTAN description.", 42 BIASJ "Full-scale output current bias. For 20-mA full-scale output current, connect a 960-ohm resistor to GND.", 47 IOUTAN (out) "A-channel DAC complementary current output. IOUTAN has the opposite behavior of the IOUTAP described for IOUTAP. An input data value of 0x0000 results in a 0-mA sink and the most-positive voltage on the IOUTAN pin.", 48 IOUTAP (out) "A-channel DAC current output. An offset binary data pattern of 0x0000 at the DAC input results in a full-scale current sink and the least-positive voltage on the IOUTAP pin. Similarly, a 0x3FF data input results in a 0-mA (See Datasheet)"
part B pins: 15 DVDD18 (power) "Digital supply voltage (1.8 V). This supply can be shared with CLKVDD18.", 33 DVDD18 (power) "Digital supply voltage (1.8 V). This supply can be shared with CLKVDD18.", 36 VFUSE (power) "Digital supply voltage (1.8 V). This supply pin is also used for factory fuse programming. Connect to DVDD18 pins for normal operation.", 39 GND (power) "Pins 39 and 46 and the thermal pad located on the bottom of the QFN package are ground for all supplies.", 40 AVDD33 (power) "Analog supply voltage (3.3 V)", 41 DVDD18 (power) "Digital supply voltage (1.8 V). This supply can be shared with CLKVDD18.", 43 AVDD33 (power) "Analog supply voltage (3.3 V)", 44 CLKVDD18 (power) "Internal clock buffer supply voltage (1.8 V) This supply can be shared with DIGVDD18.", 45 AVDD33 (power) "Analog supply voltage (3.3 V)", 46 GND (power) "Pins 39 and 46 and the thermal pad located on the bottom of the QFN package are ground for all supplies.", 49 EP (power) "Pins 39 and 46 and the thermal pad located on the bottom of the QFN package are ground for all supplies."
part C pins: 25 NC "No connect. Leave unconnected for normal operation.", 26 NC "No connect. Leave unconnected for normal operation.", 27 NC "No connect. Leave unconnected for normal operation.", 28 NC "No connect. Leave unconnected for normal operation.", 29 NC "No connect. Leave unconnected for normal operation.", 30 NC "No connect. Leave unconnected for normal operation.", 31 NC "No connect. Leave unconnected for normal operation.", 32 NC "No connect. Leave unconnected for normal operation."

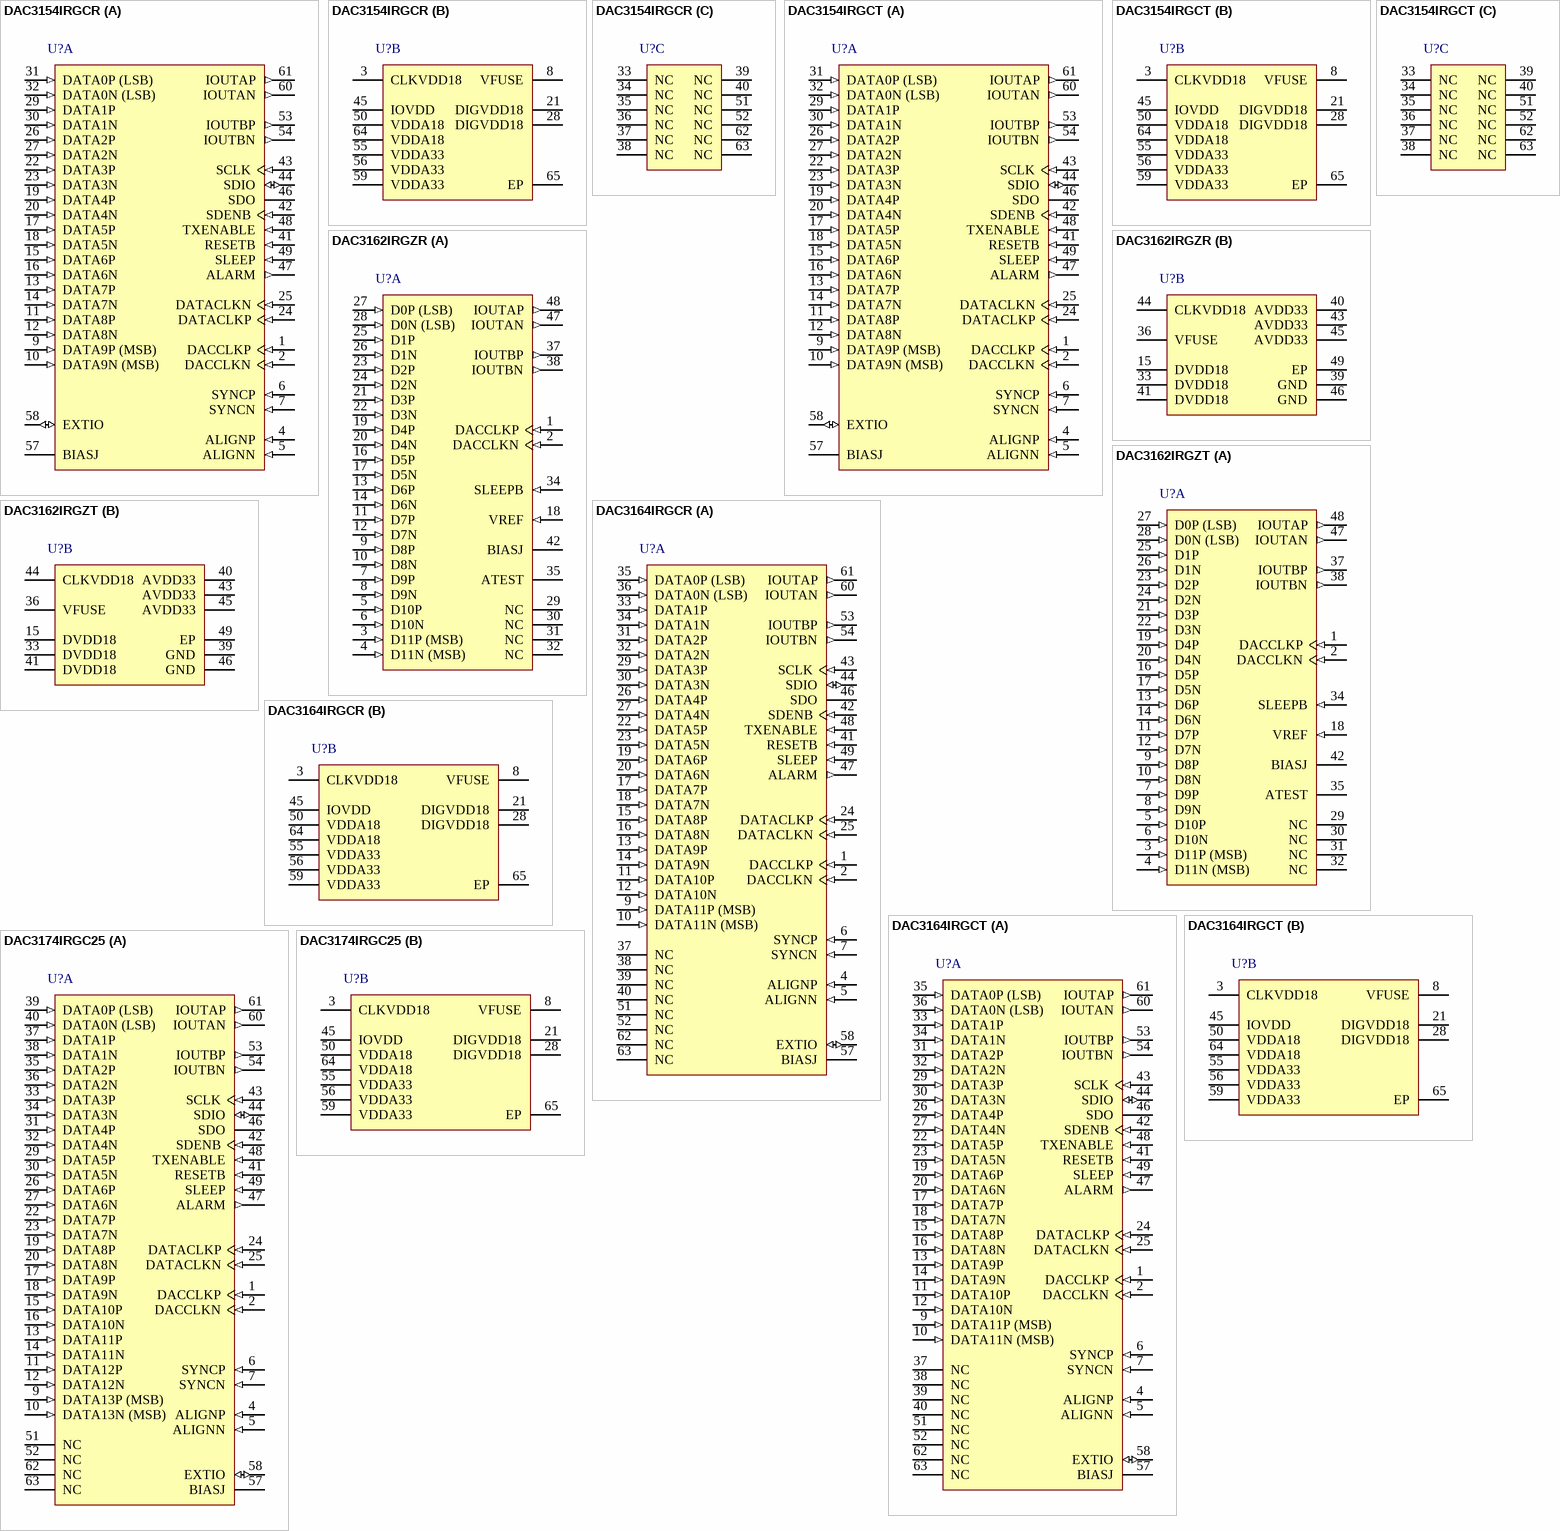
[diagram p11: symbols DAC3154IRGCR to DAC3174IRGC25]